# Altium integrated library Integrated_Library.IntLib: 216 symbols (part 2 of 3)
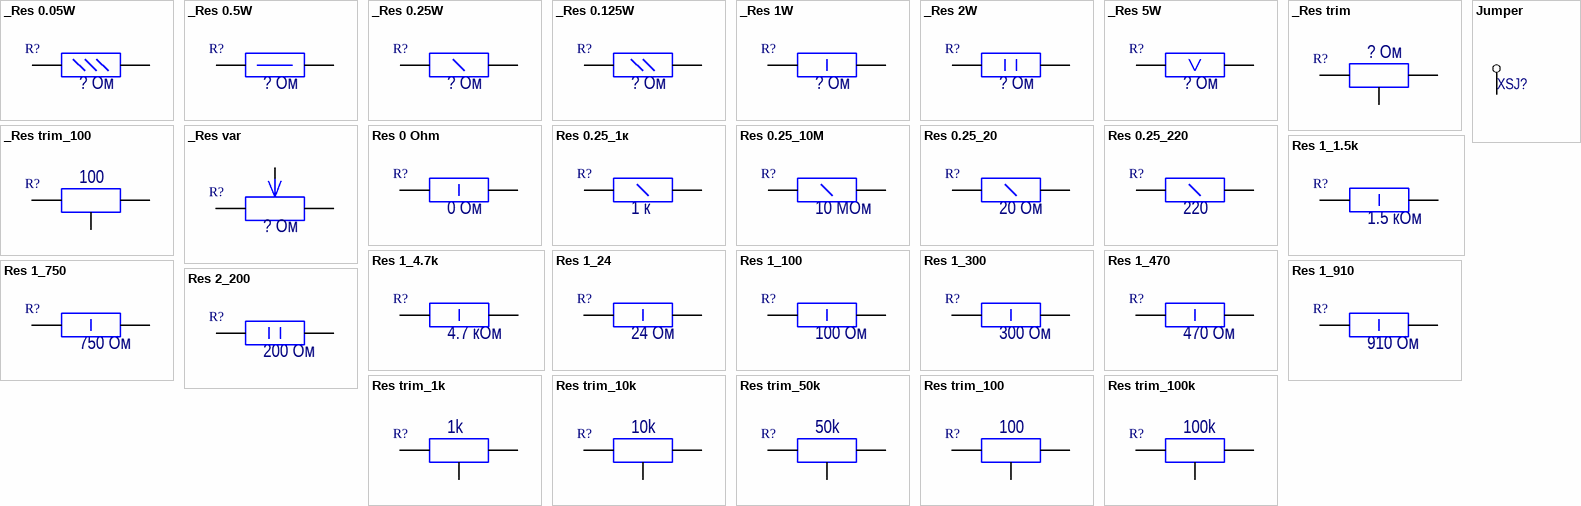
[diagram p23: symbols _Res 0.05W to Res trim_100k]

## _Res trim
designator R?, comment value ? Ом  (hidden comment: ?)
Resistor trimming; ManufacturerPartNumber: ?; ComponentLink1Description: Datasheet; ComponentLink2Description: Datasheet-local; ComponentLink2URL: *
pins: 1, 2, 3

## _Res trim_100
designator R?, comment value 100  (hidden comment: TSR 3006P-101)
Resistor trimming; Manufacturer: Suntan Tecnology Company Limited; ManufacturerPartNumber: TSR 3006P-101; ComponentLink1Description: Datasheet; ComponentLink1URL: http://www.suntan.com.hk/pdf/Trimming-Potentiometers/TSR-3006.pdf; Cost: 15,66; Package: not standard; ComponentLink2Description: Datasheet-local; ComponentLink2URL: *
pins: 1, 2, 3

## _Res var
designator R?, comment value ? Ом  (hidden comment: ?)
Variable resistor; ManufacturerPartNumber: ?; ComponentLink1Description: Datasheet; ComponentLink2Description: Datasheet-local; ComponentLink2URL: *
pins: 1, 2, 3

## Jumper
designator XSJ?
footprint RESC6332-JUMPER (Chip Resistor, 2-Leads, Body 6,40x3,30mm, IPC Low Density)
pins: 1

## Res 0 Ohm
designator R?, comment value 0 Ом  (hidden comment: RC2512JK-070RL)
Resistor with 1W max power; Manufacturer: YAGEO; ManufacturerPartNumber: RC2512JK-070RL; ComponentLink1Description: Datasheet; Package: 2512; ComponentLink2Description: Datasheet-local; ComponentLink2URL: *
footprint RESC6332X06M (Chip Resistor, 2-Leads, Body 6,35x2,50mm, IPC Low Density)
pins: 1, 2

## Res 0.25_1к
designator R?, comment value 1 к  (hidden comment: МЛТ)
Resistor with 0.25W max power; Manufacturer: СССР; ManufacturerPartNumber: МЛТ; ComponentLink1Description: Datasheet; Cost: 0,63; Package: штырьевой; Supplier: Промэлектроника; ComponentLink2Description: Datasheet-local
footprint МЛТ-0,25
pins: 1, 2

## Res 0.25_10M
designator R?, comment value 10 МОм  (hidden comment: RC1206JR-0710ML)
Resistor with 0.25W max power; Manufacturer: Yageo; ManufacturerPartNumber: RC1206JR-0710ML; ComponentLink1Description: Datasheet; ComponentLink1URL: http://www.yageo.com/documents/recent/PYu-RC1206_51_RoHS_L_6.pdf; Cost: 0,63; Package: 1206; Supplier: Промэлектроника; ComponentLink2Description: Datasheet-local; ComponentLink2URL: *
footprint RESC3216X07M (Chip Resistor, 2-Leads, Body 3,10x1,60mm, IPC Low Density)
pins: 1, 2

## Res 0.25_20
designator R?, comment value 20 Ом  (hidden comment: RC1206FR-0720RL)
Resistor with 0.25W max power; Manufacturer: Yageo; ManufacturerPartNumber: RC1206FR-0720RL; ComponentLink1Description: Datasheet; ComponentLink1URL: http://www.yageo.com/documents/recent/PYu-RC1206_51_RoHS_L_6.pdf; Cost: 0,52; Package: 1206; Supplier: Промэлектроника; ComponentLink2Description: Datasheet-local; ComponentLink2URL: *
pins: 1, 2

## Res 0.25_220
designator R?, comment value 220  (hidden comment: МЛТ)
Resistor with 0.25W max power; Manufacturer: СССР; ManufacturerPartNumber: МЛТ; ComponentLink1Description: Datasheet; Cost: 0,63; Package: штырьевой; Supplier: Промэлектроника; ComponentLink2Description: Datasheet-local
footprint МЛТ-0,25
pins: 1, 2

## Res 1_1.5k
designator R?, comment value 1.5 кОм  (hidden comment: RC2512JK-071K5L)
Resistor with 1W max power; Manufacturer: YAGEO; ManufacturerPartNumber: RC2512JK-071K5L; ComponentLink1Description: Datasheet; Package: 2512; ComponentLink2Description: Datasheet-local; ComponentLink2URL: *
footprint RESC6332X06M (Chip Resistor, 2-Leads, Body 6,35x2,50mm, IPC Low Density)
pins: 1, 2

## Res 1_4.7k
designator R?, comment value 4.7 кОм  (hidden comment: RC2512JK-074K7L)
Resistor with 1W max power; Manufacturer: YAGEO; ManufacturerPartNumber: RC2512JK-074K7L; ComponentLink1Description: Datasheet; Package: 2512; ComponentLink2Description: Datasheet-local; ComponentLink2URL: *
footprint RESC6332X06M (Chip Resistor, 2-Leads, Body 6,35x2,50mm, IPC Low Density)
pins: 1, 2

## Res 1_24
designator R?, comment value 24 Ом  (hidden comment: RC2512JK-0724RL)
Resistor with 1W max power; Manufacturer: YAGEO; ManufacturerPartNumber: RC2512JK-0724RL; ComponentLink1Description: Datasheet; Package: 2512; ComponentLink2Description: Datasheet-local; ComponentLink2URL: *
footprint RESC6332X06M (Chip Resistor, 2-Leads, Body 6,35x2,50mm, IPC Low Density)
pins: 1, 2

## Res 1_100
designator R?, comment value 100 Ом  (hidden comment: RC2512JK-07100RL)
Resistor with 1W max power; Manufacturer: YAGEO; ManufacturerPartNumber: RC2512JK-07100RL; ComponentLink1Description: Datasheet; Package: 2512; ComponentLink2Description: Datasheet-local; ComponentLink2URL: *
footprint RESC6332X06M (Chip Resistor, 2-Leads, Body 6,35x2,50mm, IPC Low Density)
footprint RESC3216X07M (Chip Resistor, 2-Leads, Body 3,10x1,60mm, IPC Low Density)
pins: 1, 2

## Res 1_300
designator R?, comment value 300 Ом  (hidden comment: RC2512JK-07300RL)
Resistor with 1W max power; Manufacturer: YAGEO; ManufacturerPartNumber: RC2512JK-07300RL; ComponentLink1Description: Datasheet; Package: 2512; ComponentLink2Description: Datasheet-local; ComponentLink2URL: *
footprint RESC6332X06M (Chip Resistor, 2-Leads, Body 6,35x2,50mm, IPC Low Density)
pins: 1, 2

## Res 1_470
designator R?, comment value 470 Ом  (hidden comment: RC2512JK-07470RL)
Resistor with 1W max power; Manufacturer: YAGEO; ManufacturerPartNumber: RC2512JK-07470RL; ComponentLink1Description: Datasheet; Package: 2512; ComponentLink2Description: Datasheet-local; ComponentLink2URL: *
footprint RESC6332X06M (Chip Resistor, 2-Leads, Body 6,35x2,50mm, IPC Low Density)
pins: 1, 2

## Res 1_750
designator R?, comment value 750 Ом  (hidden comment: RC2512JK-07750RL)
Resistor with 1W max power; Manufacturer: YAGEO; ManufacturerPartNumber: RC2512JK-07750RL; ComponentLink1Description: Datasheet; Package: 2512; ComponentLink2Description: Datasheet-local; ComponentLink2URL: *
footprint RESC6332X06M (Chip Resistor, 2-Leads, Body 6,35x2,50mm, IPC Low Density)
pins: 1, 2

## Res 1_910
designator R?, comment value 910 Ом  (hidden comment: RC2512JK-07910RL)
Resistor with 1W max power; Manufacturer: YAGEO; ManufacturerPartNumber: RC2512JK-07910RL; ComponentLink1Description: Datasheet; Package: 2512; ComponentLink2Description: Datasheet-local; ComponentLink2URL: *
footprint RESC6332X06M (Chip Resistor, 2-Leads, Body 6,35x2,50mm, IPC Low Density)
pins: 1, 2

## Res 2_200
designator R?, comment value 200 Ом  (hidden comment: ?)
200 Ohm resistor with 2W max power; ManufacturerPartNumber: ?; ComponentLink1Description: Datasheet; Package: MFR200; ComponentLink2Description: Datasheet-local; ComponentLink2URL: *
footprint MFR200 (2W resistor)
pins: 1, 2

## Res trim_1k
designator R?, comment value 1k  (hidden comment: T93YA102KT20)
Resistor trimming; Manufacturer: VISHAY; ManufacturerPartNumber: T93YA102KT20; ComponentLink1Description: Datasheet; ComponentLink1URL: http://www.vishay.com/docs/51026/t93.pdf; Cost: 38.41; Package: not standard; ComponentLink2Description: Datasheet-local; ComponentLink2URL: *
footprint T93YA (3/8" Square Multi-Turn Cermet Trimmer)
pins: 1, 2, 3

## Res trim_10k
designator R?, comment value 10k  (hidden comment: T93YA102KT20)
Resistor trimming; Manufacturer: VISHAY; ManufacturerPartNumber: T93YA102KT20; ComponentLink1Description: Datasheet; ComponentLink1URL: http://www.vishay.com/docs/51026/t93.pdf; Cost: 38.41; Package: not standard; ComponentLink2Description: Datasheet-local; ComponentLink2URL: *
footprint T93YA (3/8" Square Multi-Turn Cermet Trimmer)
pins: 1, 2, 3

## Res trim_50k
designator R?, comment value 50k  (hidden comment: T93YA503KT20)
Resistor trimming; Manufacturer: VISHAY; ManufacturerPartNumber: T93YA503KT20; ComponentLink1Description: Datasheet; ComponentLink1URL: http://www.vishay.com/docs/51026/t93.pdf; Cost: 38.41; Package: not standard; ComponentLink2Description: Datasheet-local; ComponentLink2URL: *
footprint T93YA (3/8" Square Multi-Turn Cermet Trimmer)
pins: 1, 2, 3

## Res trim_100
designator R?, comment value 100  (hidden comment: TSR 3362P-101)
Resistor trimming; Manufacturer: Suntan Tecnology Company Limited; ManufacturerPartNumber: TSR 3362P-101; ComponentLink1Description: Datasheet; ComponentLink1URL: http://www.suntan.com.hk/pdf/Trimming-Potentiometers/TSR-3006.pdf; Cost: 15,66; Package: not standard; ComponentLink2Description: Datasheet-local; ComponentLink2URL: *
footprint TSR-3362-SMD
footprint TSR-3362
pins: 1, 2, 3

## Res trim_100k
designator R?, comment value 100k  (hidden comment: T93YA104KT20)
Resistor trimming; Manufacturer: VISHAY; ManufacturerPartNumber: T93YA104KT20; ComponentLink1Description: Datasheet; ComponentLink1URL: http://www.vishay.com/docs/51026/t93.pdf; Cost: 38.41; Package: not standard; ComponentLink2Description: Datasheet-local; ComponentLink2URL: *
footprint T93YA (3/8" Square Multi-Turn Cermet Trimmer)
pins: 1, 2, 3


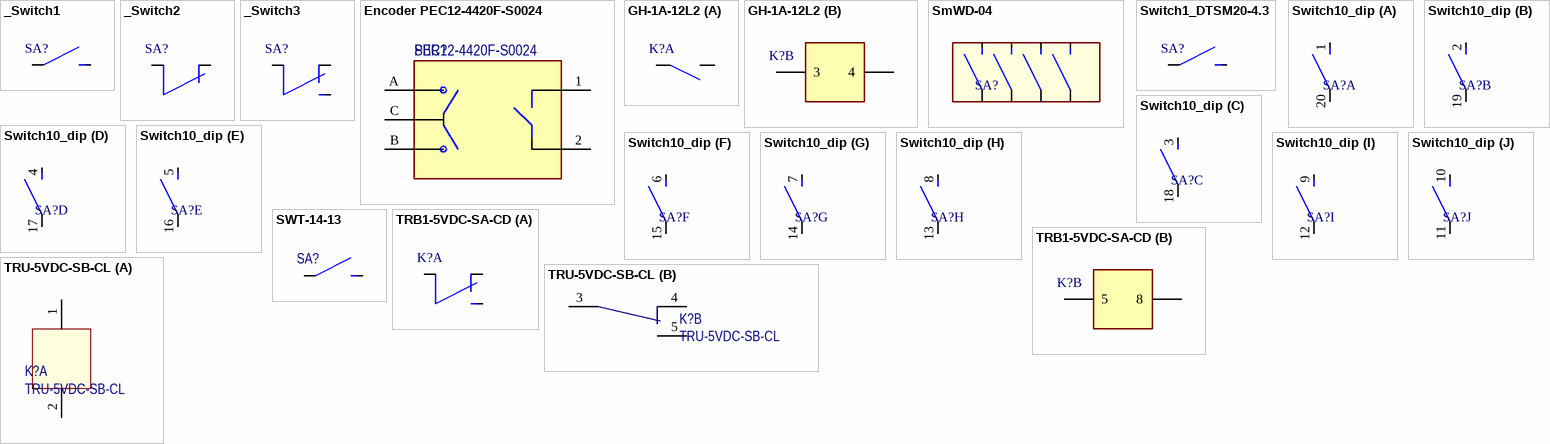
[diagram p9: symbols _Switch1 to TRU-5VDC-SB-CL]

## _Switch1
designator SA?, comment ?  (value not drawn)
Switch open; ManufacturerPartNumber: ?; ComponentLink1Description: Datasheet; ComponentLink2Description: Datasheet-local; ComponentLink2URL: *
pins: 1, 2

## _Switch2
designator SA?, comment ?  (value not drawn)
Switch closed; ManufacturerPartNumber: ?; ComponentLink1Description: Datasheet; ComponentLink2Description: Datasheet-local; ComponentLink2URL: *
pins: 1, 2

## _Switch3
designator SA?, comment ?  (value not drawn)
Changeover switch; ManufacturerPartNumber: ?; ComponentLink1Description: Datasheet; ComponentLink2Description: Datasheet-local; ComponentLink2URL: *
pins: 1, 2, 3

## Encoder PEC12-4420F-S0024
designator SBR?, comment PEC12-4420F-S0024
Supplier 1: Mouser; Supplier Part Number 1: 652-PEC12-4220FS0024; ComponentLink1URL: http://www.mouser.com/ds/2/54/bourns_pec12-350254.pdf; ComponentLink1Description: http://www.mouser.com/ds/2/54/bourns_pec12-350254.pdf; ManufacturerPartNumber: PEC12-4420F-S0024
footprint PEC12-4420F-S0024
pins: 1, 2, A, B, C

## GH-1A-12L2
designator K?  (value not drawn)
Relay open; Manufacturer: Tai Shing Electronics Components Corp.; ManufacturerPartNumber: GH-1A-12L2; ComponentLink1Description: Datasheet; ComponentLink1URL: http://www.dzsc.com/uploadfile/company/306168/2010513152117307.pdf; Cost: 31.18; Package: unknown; Supplier: Промэлектроника; ComponentLink2Description: Datasheet-local; ComponentLink2URL: *
footprint GH-1A-12L2
part A pins: 1, 2
part B pins: 3, 4

## SmWD-04
designator SA?, comment SmWD04 SMD  (value not drawn)
Движковый переключатель для поверхностного монтажа; Manufacturer: Diptronics; ManufacturerPartNumber: SmWD04 SMD; ComponentLink1Description: Datasheet; ComponentLink1URL: http://www.promelec.ru/catalog_info/55/140/603/630/; Cost: 37.08; Package: SMD; Supplier: Промэлектроника
footprint SmWD-04_SMD (CFP, 8-Leads, Body 11,10x6,20mm (max), Pitch 2,54mm, IPC High Density)
pins: 1, 2, 3, 4, 5, 6, 7, 8

## Switch1_DTSM20-4.3
designator SA?, comment DTSM20-4.3  (value not drawn)
Switch open; Manufacturer: Diptronics; ManufacturerPartNumber: DTSM20-4.3; ComponentLink1Description: Datasheet; ComponentLink1URL: http://www.promelec.ru/catalog/407/1291/1323/1/70721/; ComponentLink2Description: Datasheet-local; ComponentLink2URL: *
footprint DTSM20 (DTSM20 button footprint)
pins: 1, 2

## Switch10_dip
designator SA?, comment DipSwitch8  (value not drawn)
Выводной DIP переключатель на 10 бит; Manufacturer: ECE; ManufacturerPartNumber: DipSwitch8; Supplier: LTF; Package: DIP20
footprint DIP20-Switch (Стандартный DIP20 корпус для выводных переключателей)
part A pins: 1, 20
part B pins: 2, 19
part C pins: 3, 18
part D pins: 4, 17
part E pins: 5, 16
part F pins: 6, 15
part G pins: 7, 14
part H pins: 8, 13
part I pins: 9, 12
part J pins: 10, 11

## SWT-14-13
designator SA?, comment SWT14-13  (value not drawn)
ManufacturerPartNumber: SWT14-13
footprint SWT14
pins: 1, 2

## TRB1-5VDC-SA-CD
designator K?  (value not drawn)
Relay open; Manufacturer: Tai Shing Electronics Components Corp.; ManufacturerPartNumber: TRB1-5VDC-SA-CD; ComponentLink1Description: Datasheet; ComponentLink1URL: http://www.promelec.ru/pdf/TRB.pdf; Cost: 31.18; Package: DIP-12; Supplier: Промэлектроника; ComponentLink2Description: Datasheet-local; ComponentLink2URL: *
footprint TRB1-5VDC-SA-CD
part A pins: 1 COM "Common", 6 NC, 7 NO
part B pins: 5, 8

## TRU-5VDC-SB-CL
designator K?
ManufacturerPurtNumber: TRU-5VDC-SB-CL
footprint TRU-5VDC-SB-CL
part A pins: 1, 2
part B pins: 3, 4, 5


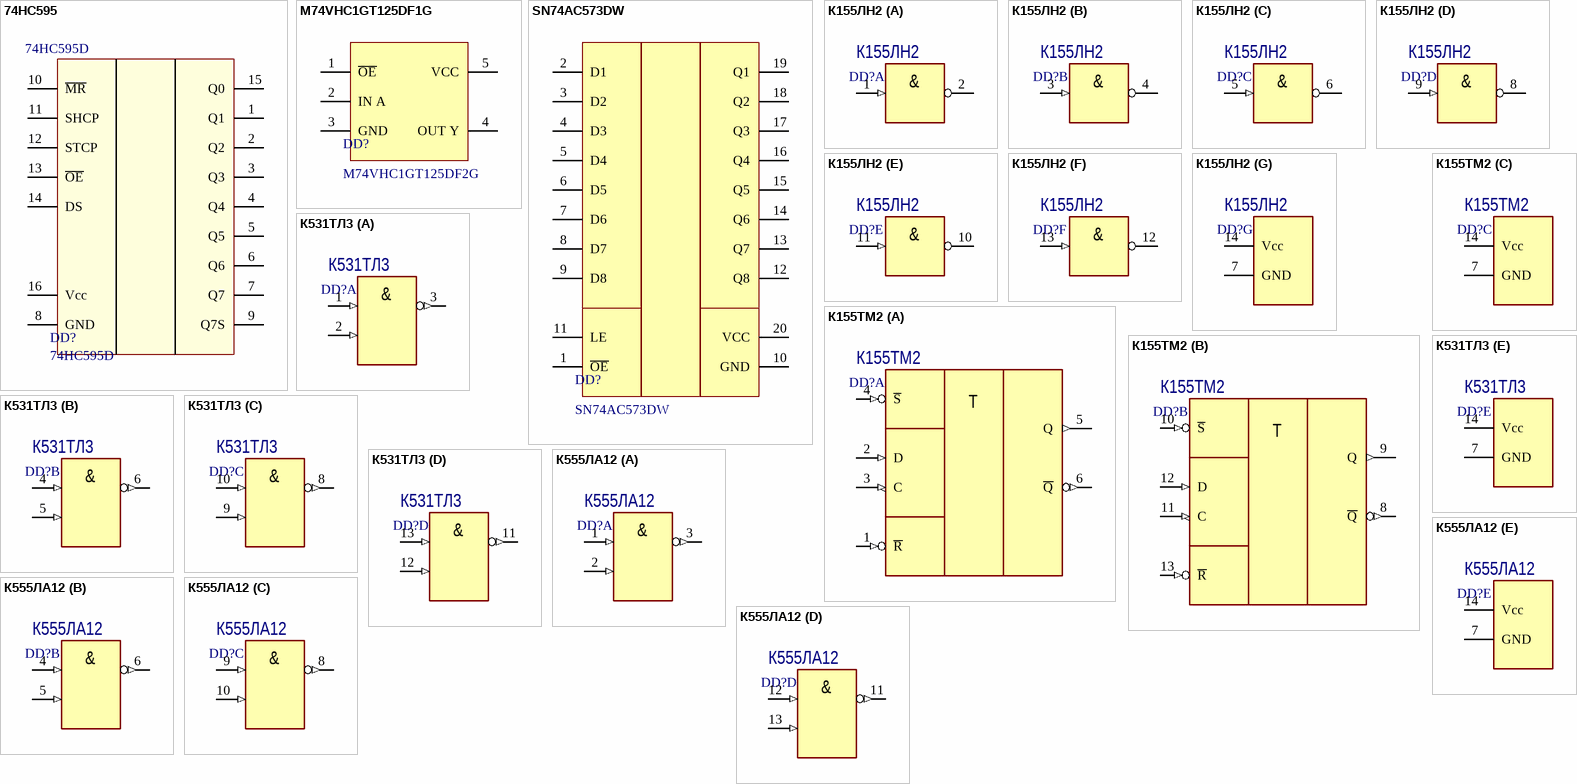
[diagram p10: symbols 74HC595 to К555ЛА12]

## 74HC595
designator DD?, comment 74HC595D
IC: digital; 3-state,8bit, shift register, latch; SMD; SO16; Manufacturer: NXP; Unit: pcs; SuppliedAmount: 2500; MinAmount: 1; Supplier 1: TME; ManufacturerPartNumber: 74HC595D; Category: Shift Registers; Stock 1: 32276; Pricing 1: 1=0,3701, 25=0,1253, 100=0,1133, 500=0,1003, 2500=0,088 (USD); Weight: 0,353; Multiples: 1; Price Type: NET; Integrated circuit type: digital; Kind of integrated circuit: 3-state; Mounting: SMD; Case: SO16; Series: HC; ComponentLink1URL: http://www.tme.eu/en/details/74hc595d/shift-registers/; ComponentLink1Description: http://www.tme.eu/en/details/74hc595d/shift-registers/; Supplier Part Number 1: 74HC595D
footprint SOIC127P600X175-16N (SOIC, 16-Leads, Body 9,90x3,90mm, Pitch 1,27mm, IPC Medium Density)
pins: 1 Q1, 2 Q2, 3 Q3, 4 Q4, 5 Q5, 6 Q6, 7 Q7, 8 GND, 9 Q7S, 10 ~{MR}, 11 SHCP, 12 STCP, 13 ~{OE}, 14 DS, 15 Q0, 16 Vcc

## M74VHC1GT125DF1G
designator DD?, comment M74VHC1GT125DF2G
NON INVERTING BUFFER, SOT-353-5; Manufacturer: ON SEMICONDUCTOR; Description: ON SEMICONDUCTOR - M74VHC1GT125DF2G - NON INVERTING BUFFER, SOT-353-5; Logic Device Type: Buffer, Non Inverting; No. of Pins: 5; Supply Voltage Min: 3; Supply Voltage Max: 5.5; Supplier 1: Newark; ManufacturerPartNumber: M74VHC1GT125DF2G; RoHS: YES; Stock 1: 4805; Pricing 1: 1=0,046, 10=0,046, 25=0,046, 100=0,046, 250=0,046, 500=0,046, 1000=0,037, 2500=0,037 (USD); Logic Case Style: SOT-353; Operating Temperature Min: -55 C; Operating Temperature Max: 125 C; ComponentLink1URL: http://www.farnell.com/datasheets/1749137.pdf; ComponentLink1Description: http://www.farnell.com/datasheets/1749137.pdf; Supplier Part Number 1: 83H7592
footprint SOT65P210X110-5N (SOT23, 5-Leads, Body 2,00x2,10mm, Pitch 0,65mm, IPC Medium Density)
pins: 1 ~{OE}, 2 IN A, 3 GND, 4 OUT Y, 5 VCC

## SN74AC573DW
designator DD?
IC OCTAL TRANSP LATCH 20-SOIC; Manufacturer: Texas Instruments; Logic Type: D-Type Transparent Latch; Circuit: 8:8; Output Type: Tri-State; Voltage - Supply: 2 V ~ 6 V; Independent Circuits: 1; Delay Time - Propagation: 2.5ns; Current - Output High, Low: 24mA, 24mA; Supplier 1: Digi-Key; ManufacturerPartNumber: SN74AC573DW; RoHS: RoHS Compliant; Category: Integrated Circuits (ICs); Stock 1: 1044; Pricing 1: 1=0.92, 10=0.826, 100=0.644, 500=0.532, 1000=0.42, 2500=0.392, 5000=0.3724, 10000=0.3584 (USD); Packaging: Tube; Operating Temperature: -40°C ~ 85°C; Mounting Type: Surface Mount; Package / Case: 20-SOIC (0.295", 7.50mm Width); Supplier Device Package: 20-SOIC; ComponentLink1URL: http://www.ti.com/lit/ds/symlink/sn74ac573.pdf; ComponentLink1Description: http://www.ti.com/lit/ds/symlink/sn74ac573.pdf; Supplier Part Number 1: 296-1061-5-ND
footprint SOIC127P1030X265-20N (SOIC, 20-Leads, Body 12,78x7,50mm, Pitch 1,27mm, IPC Medium Density)
pins: 1 ~{OE}, 2 D1, 3 D2, 4 D3, 5 D4, 6 D5, 7 D6, 8 D7, 9 D8, 10 GND, 11 LE, 12 Q8, 13 Q7, 14 Q6, 15 Q5, 16 Q4, 17 Q3, 18 Q2, 19 Q1, 20 VCC

## К155ЛН2
designator DD?
НЕ(ОК); Manufacturer: -; Package: DIP-14; ComponentLink1URL: -; ComponentLink1Description: Datasheet; Cost: -; Supplier: -; ComponentLink2URL: -; ComponentLink2Description: Datasheet-local; ManufacturerPartNumber: К155ЛН2
footprint DIP14
part A pins: 1 (in), 2 (oc)
part B pins: 3 (in), 4 (oc)
part C pins: 5 (in), 6 (oc)
part D pins: 8 (oc), 9 (in)
part E pins: 10 (oc), 11 (in)
part F pins: 12 (oc), 13 (in)
part G pins: 7 GND (power), 14 Vcc (power)
part A text: &
part B text: &
part C text: &
part D text: &
part E text: &
part F text: &

## К155ТМ2
designator DD?
D-триггер; Manufacturer: -; Package: DIP-14; ComponentLink1URL: -; ComponentLink1Description: Datasheet; Cost: -; Supplier: -; ComponentLink2URL: -; ComponentLink2Description: Datasheet-local; ManufacturerPartNumber: К155ТМ2
footprint DIP14
part A pins: 1 ~{R} (in), 2 D (in), 3 C (in), 4 ~{S} (in), 5 Q (out), 6 ~{Q} (out)
part B pins: 8 ~{Q} (out), 9 Q (out), 10 ~{S} (in), 11 C (in), 12 D (in), 13 ~{R} (in)
part C pins: 7 GND (power), 14 Vcc (power)
part A text: T
part B text: T

## К531ТЛ3
designator DD?
2И-НЕ с триггером Шмитта; Manufacturer: -; Package: DIP-14; ComponentLink1URL: -; ComponentLink1Description: Datasheet; Cost: -; Supplier: -; ComponentLink2URL: -; ComponentLink2Description: Datasheet-local; ManufacturerPartNumber: К531ТЛ3
footprint DIP14
part A pins: 1 (in), 2 (in), 3 (out)
part B pins: 4 (in), 5 (in), 6 (out)
part C pins: 8 (out), 9 (in), 10 (in)
part D pins: 11 (out), 12 (in), 13 (in)
part E pins: 7 GND (power), 14 Vcc (power)
part A text: &
part B text: &
part C text: &
part D text: &

## К555ЛА12
designator DD?
2И-НЕ; Manufacturer: -; Package: DIP-14; ComponentLink1URL: -; ComponentLink1Description: Datasheet; Cost: -; Supplier: -; ComponentLink2URL: -; ComponentLink2Description: Datasheet-local; ManufacturerPartNumber: К555ЛА12
footprint DIP14
part A pins: 1 INA1 (in), 2 INA2 (in), 3 OUTA (out)
part B pins: 4 INB1 (in), 5 INB2 (in), 6 OUTB (out)
part C pins: 8 OUTC (out), 9 INC1 (in), 10 INC2 (in)
part D pins: 11 OUTD (out), 12 IND1 (in), 13 IND2 (in)
part E pins: 7 GND (power), 14 Vcc (power)
part A text: &
part B text: &
part C text: &
part D text: &


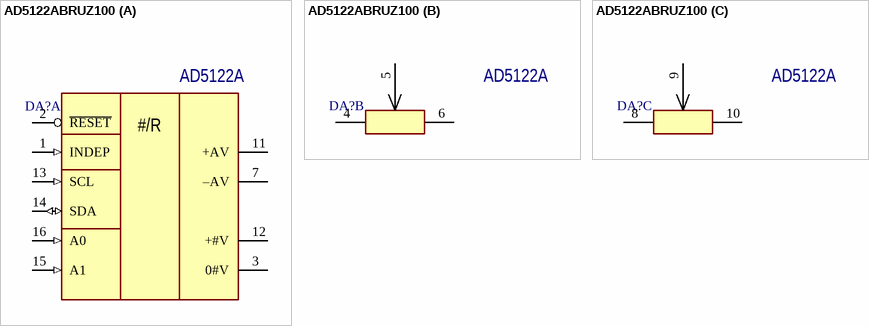
[diagram p11: symbol AD5122ABRUZ100]

## AD5122ABRUZ100
designator DA?, comment AD5122A
Digital potentiometer; Manufacturer: Analog Devices Inc; ComponentLink1URL: http://www.farnell.com/datasheets/1679537.pdf; ComponentLink1Description: Datasheet; Cost: 68,58; Package: TSSOP-16; Supplier: Аргуссофт; ComponentLink2Description: Datasheet-local; ComponentLink2URL: .\datasheets\AD5122A_5142A.pdf; ManufacturerPartNumber: AD5122A
footprint AD5122A (16-Lead Thin Shrink Small Outline Package [TSSOP]   (RU-16))
part A pins: 1 INDEP (in), 2 ~{RESET}, 3 0#V (power) "GND", 7 –AV (power) "Vss", 11 +AV (power) "Vdd", 12 +#V (power) "Vlogic", 13 SCL (in), 14 SDA (io), 15 A1 (in) "ADDR1", 16 A0 (in) "ADDR0"
part B pins: 4 A1, 5 W1, 6 B1
part C pins: 8 A2, 9 W2, 10 B2
part A text: #/R


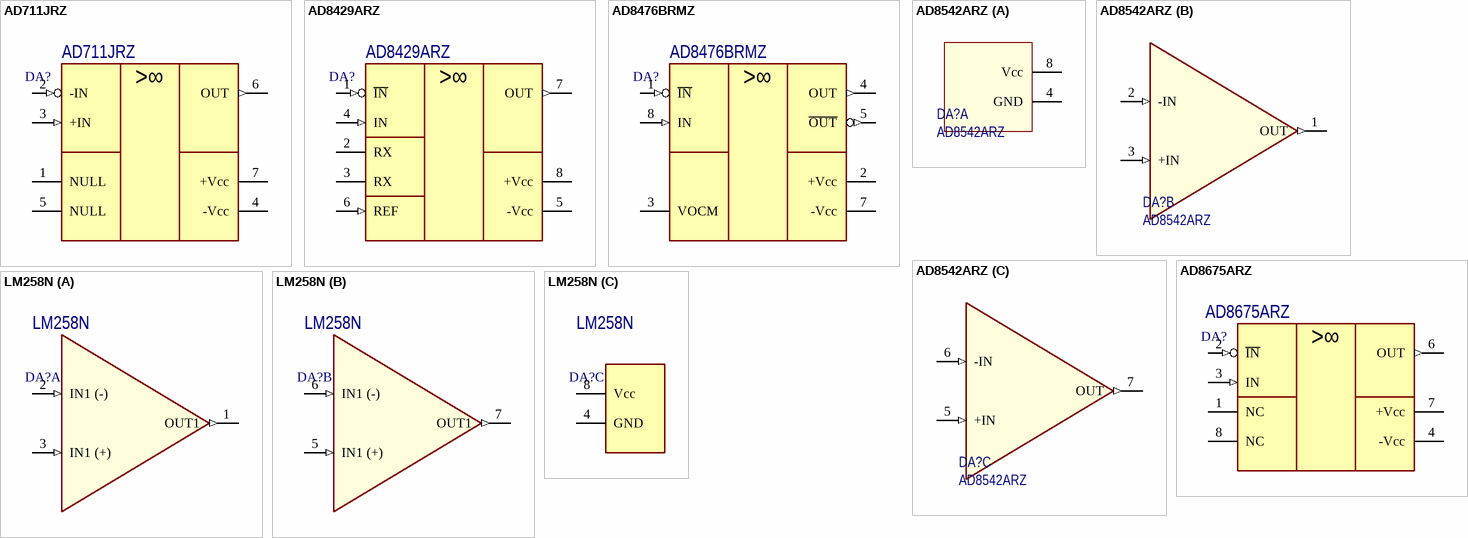
[diagram p12: symbols AD711JRZ to LM258N]

## AD711JRZ
designator DA?
Оperational amplifier; Manufacturer: Analog Devices Inc; ComponentLink1URL: http://www.analog.com/static/imported-files/data_sheets/AD711.pdf; ComponentLink1Description: Datasheet; Package: SOIC-8; Cost: 58,20; Supplier: Аргуссофт; ComponentLink2URL: .\datasheet\AD711.pdf; ComponentLink2Description: Datasheet-local; ManufacturerPartNumber: AD711JRZ
footprint AD711JRZ (8-Lead Standard Small Outline Package [SOIC]  Narrow Body  (RN-8))
pins: 1 NULL, 2 -IN (in), 3 +IN (in), 4 -Vcc (power), 5 NULL, 6 OUT (out), 7 +Vcc (power) "+V"
text: >∞

## AD8429ARZ
designator DA?
Оperational amplifier; Manufacturer: Analog Devices Inc; Package: SOIC-8; ComponentLink1URL: http://www.analog.com/static/imported-files/data_sheets/AD8429.pdf; ComponentLink1Description: Datasheet; Cost: 175,76; Supplier: Аргуссофт; ComponentLink2URL: .\datasheet\AD8429.pdf; ComponentLink2Description: Datasheet-local; ManufacturerPartNumber: AD8429ARZ
footprint AD711JRZ (8-Lead Standard Small Outline Package [SOIC]  Narrow Body  (RN-8))
pins: 1 ~{IN} (in) "-IN", 2 RX "RG", 3 RX "RG", 4 IN (in) "+IN", 5 -Vcc (power) "-Vs", 6 REF (in), 7 OUT (out), 8 +Vcc (power) "+Vs"
text: >∞

## AD8476BRMZ
designator DA?
Оperational amplifier; Manufacturer: Analog Devices Inc; Package: MSOP-8; ComponentLink1URL: http://www.analog.com/static/imported-files/data_sheets/AD8476.pdf; ComponentLink1Description: Datasheet; Cost: 126,49; Supplier: Аргуссофт; ComponentLink2URL: .\datasheet\AD8476.pdf; ComponentLink2Description: Datasheet-local; ManufacturerPartNumber: AD8476BRMZ
footprint AD8476BRMZ (8-Lead Mini Small Outline Package [MSOP]   (RM-8))
pins: 1 ~{IN} (in) "Negative input", 2 +Vcc (power) "+Vs", 3 VOCM "Output COmmon-MOde Adjust", 4 OUT (out) "Noninverting Output", 5 ~{OUT} (out) "Inverting Output", 7 -Vcc (power) "-Vs", 8 IN (in) "Positive input"
text: >∞

## AD8542ARZ
designator DA?
ManufacturerPartNumber: AD8542ARZ
footprint AD8542ARZ (SOIC, 8-Leads, Body 4,90x3,90mm)
part A pins: 4 GND, 8 Vcc
part B pins: 1 OUT (out), 2 -IN (in), 3 +IN (in)
part C pins: 5 +IN (in), 6 -IN (in), 7 OUT (out)

## AD8675ARZ
designator DA?
Оperational amplifier; Manufacturer: Analog Devices Inc; Package: SOIC-8; ComponentLink1URL: http://www.analog.com/static/imported-files/data_sheets/AD8675.pdf; ComponentLink1Description: Datasheet; Supplier: Аргуссофт; Cost: 70,88; ComponentLink2URL: .\datasheet\AD8675.pdf; ComponentLink2Description: Datasheet-local; ManufacturerPartNumber: AD8675ARZ
footprint AD711JRZ (8-Lead Standard Small Outline Package [SOIC]  Narrow Body  (RN-8))
pins: 1 NC "NULL", 2 ~{IN} (in) "-IN", 3 IN (in) "+IN", 4 -Vcc (power) "V-", 6 OUT (out), 7 +Vcc (power) "V+", 8 NC "NULL"
text: >∞

## LM258N
designator DA?
Оperational amplifier x2; Manufacturer: Analog Devices Inc; Package: DIP-8; ComponentLink1URL: https://www.fairchildsemi.com/datasheets/LM/LM258.pdf; ComponentLink1Description: Datasheet; Supplier: Аргуссофт; Cost: 70,88; ManufacturerPartNumber: LM258N
footprint DIP8
part A pins: 1 OUT1 (out), 2 IN1 (-) (in), 3 IN1 (+) (in)
part B pins: 5 IN1 (+) (in), 6 IN1 (-) (in), 7 OUT1 (out)
part C pins: 4 GND (power), 8 Vcc (power)


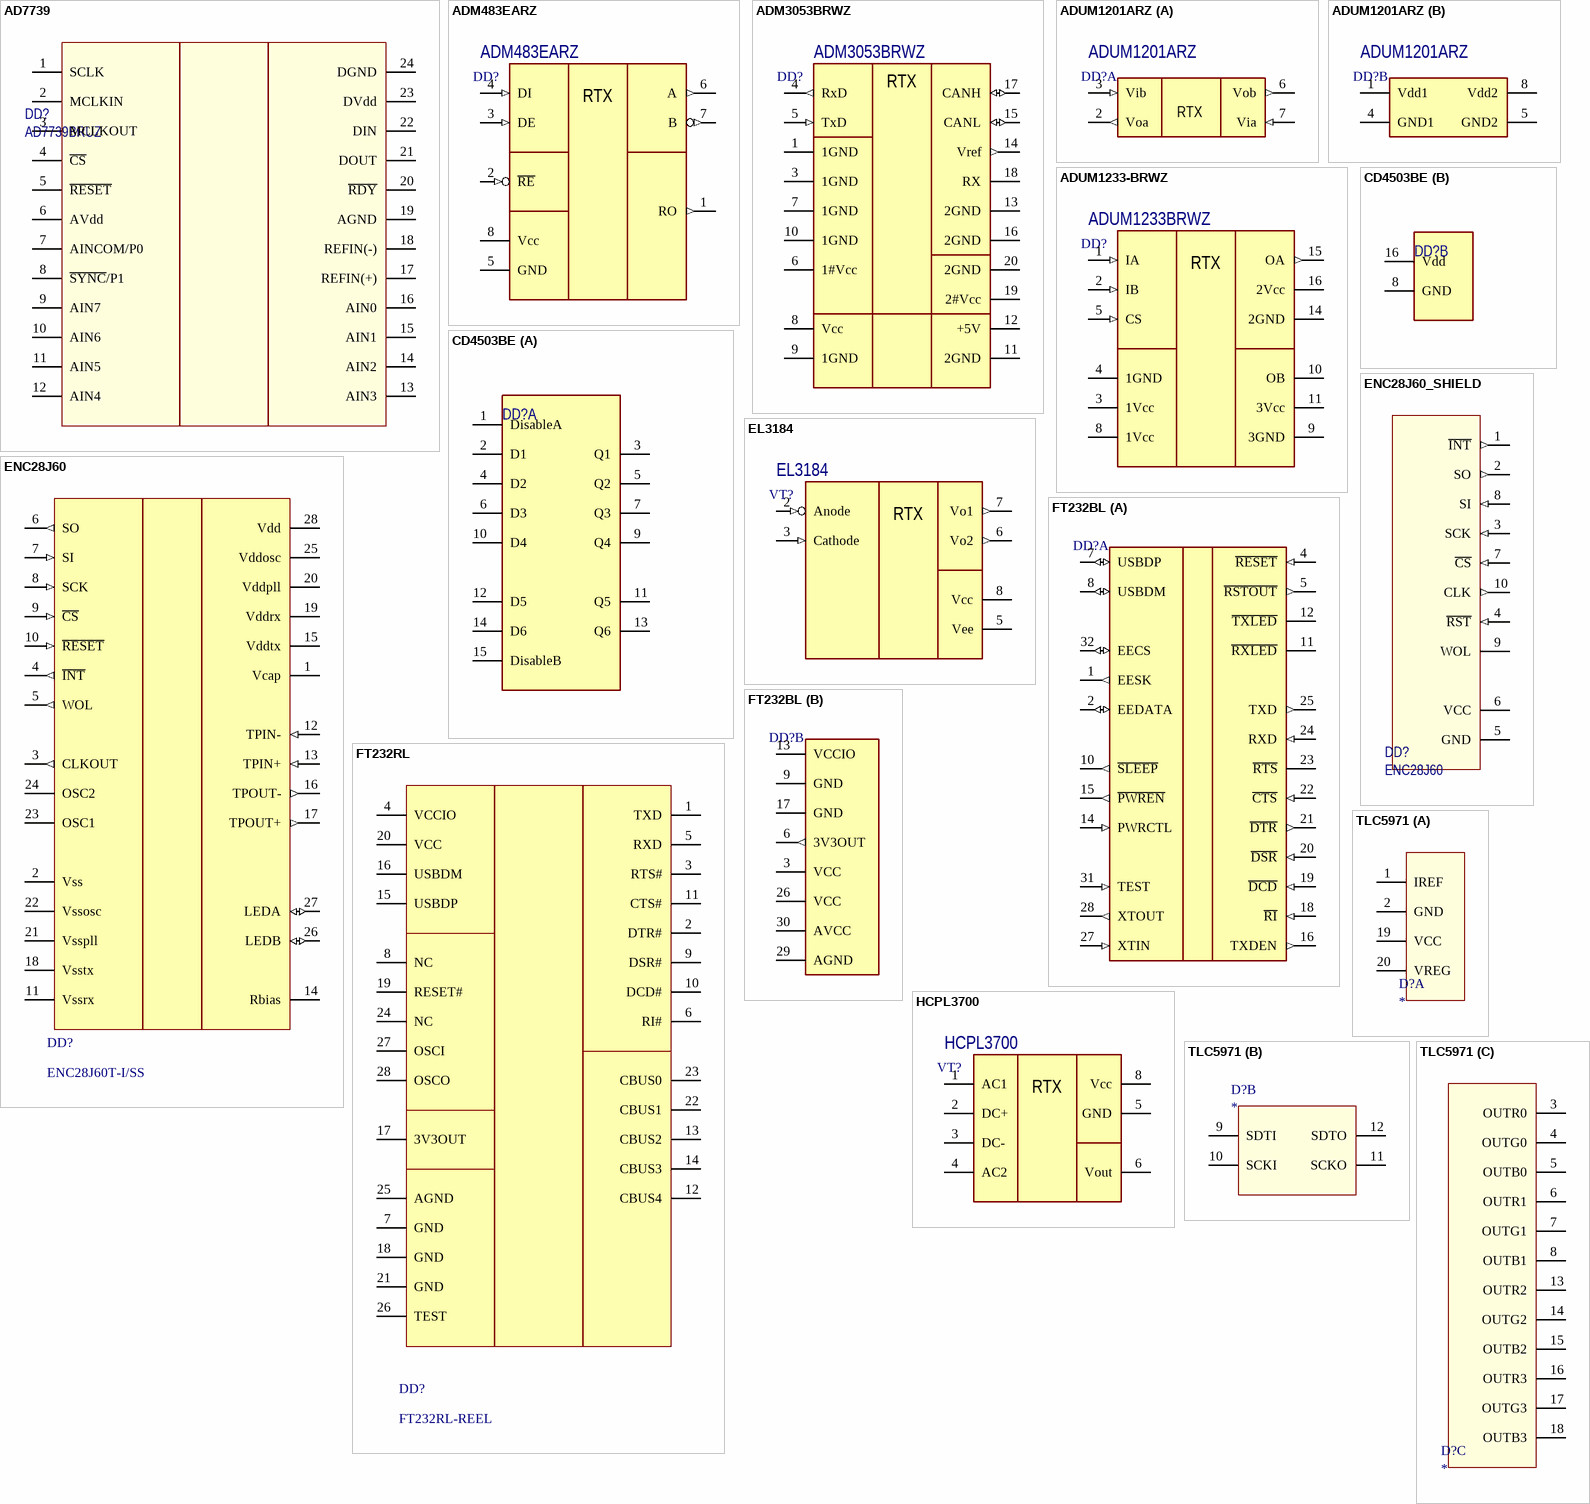
[diagram p13: symbols AD7739 to TLC5971]

## AD7739
designator DD?, comment AD7739BRUZ
IC ADC 24BIT 8-CH 24-TSSOP; Manufacturer: Analog Devices Inc.; Number of Bits: 24; Sampling Rate (Per Second): 15.1k; Number of Inputs: 4, 8; Input Type: Differential, Single Ended; Data Interface: SPI, DSP; Configuration: MUX-ADC; Number of A/D Converters: 1; Architecture: Sigma-Delta; Reference Type: External; Voltage - Supply, Analog: 5V; Voltage - Supply, Digital: 2.7 V ~ 3.6 V, 5V; ManufacturerPartNumber: AD7739BRUZ; Supplier 1: Digi-Key; Manufacturer Part Number: AD7739BRUZ; RoHS: RoHS Compliant; Category: Integrated Circuits (ICs); Stock 1: 284; Pricing 1: 1=15.82, 62=13.93694, 124=12.2796, 558=10.92357, 1054=10.01955, 2542=9.64288, 5000=9.516 (USD); Packaging: Tube; Ratio - S/H:ADC: -; Features: True Bipolar; Operating Temperature: -40°C ~ 105°C; Package / Case: 24-TSSOP (0.173", 4.40mm Width); Supplier Device Package: 24-TSSOP; ComponentLink1URL: http://www.analog.com/media/en/technical-documentation/data-sheets/AD7739.pdf; ComponentLink1Description: http://www.analog.com/media/en/technical-documentation/data-sheets/AD7739.pdf; Supplier Part Number 1: AD7739BRUZ-ND
footprint TSSOP-RU-24 (TSOP, 24-Leads, Body 7,80x4,40mm, Pitch 0,65mm, IPC Low Density)
pins: 1 SCLK, 2 MCLKIN, 3 MCLKOUT, 4 ~{CS}, 5 ~{RESET}, 6 AVdd, 7 AINCOM/P0, 8 ~{SYNC}/P1, 9 AIN7, 10 AIN6, 11 AIN5, 12 AIN4, 13 AIN3, 14 AIN2, 15 AIN1, 16 AIN0, 17 REFIN(+), 18 REFIN(-), 19 AGND, 20 ~{RDY}, 21 DOUT, 22 DIN, 23 DVdd, 24 DGND

## ADM483EARZ
designator DD?
Isolator interface; Manufacturer: Analog Devices Inc.; Package: DIP-8; ComponentLink1URL: http://www.analog.com/static/imported-files/data_sheets/ADM483E.pdf; ComponentLink1Description: Datasheet; Cost: 62,10; Supplier: Промэлектроника; ComponentLink2Description: Datasheet-local; ManufacturerPartNumber: ADM483EARZ
footprint DIP8
pins: 1 RO (out), 2 ~{RE} (in), 3 DE (in), 4 DI (in), 5 GND (power), 6 A (out), 7 B (out), 8 Vcc (power)
2 alternate drawings of the same symbol
text: RTX

## ADM3053BRWZ
designator DD?
CAN; Manufacturer: Analog Devices Inc; Package: SOIC-20; ComponentLink1Description: Datasheet; ComponentLink1URL: http://www.analog.com/static/imported-files/data_sheets/ADM3053.pdf; Cost: 308,31; Supplier: Аргуссофт; ComponentLink2URL: .\datasheet\ADM3053.pdf; ComponentLink2Description: Datasheet-local; ManufacturerPartNumber: ADM3053BRWZ
footprint SOIC_W (20-Lead SOIC_W, Body 12,80x7,50mm, Pitch 1,27mm, IPC Low Density)
pins: 1 1GND (power) "GND1", 3 1GND (power) "GND1", 4 RxD (out), 5 TxD (in), 6 1#Vcc (power) "Vio", 7 1GND (power) "GND1", 8 Vcc (power), 9 1GND (power) "GND1", 10 1GND (power) "GND1", 11 2GND, 12 +5V "Visoout", 13 2GND (power) "GND2", 14 Vref (out), 15 CANL (io), 16 2GND, 17 CANH (io), 18 RX "Rs", 19 2#Vcc "Visoin", 20 2GND
text: RTX

## ADUM1201ARZ
designator DD?
Digital Isolator Logic 2-CH 1Mbps 8-Pin SOIC N; Manufacturer: Analog Devices Inc.; Package: SOIC-8; ComponentLink1URL: http://www.analog.com/static/imported-files/data_sheets/ADuM1200_1201.pdf; ComponentLink1Description: Datasheet; Cost: ?; Supplier: Промэлектроника; ComponentLink2Description: Datasheet-local; ManufacturerPartNumber: ADUM1201ARZ
footprint AD711JRZ (8-Lead Standard Small Outline Package [SOIC]  Narrow Body  (RN-8))
part A pins: 2 Voa (out), 3 Vib (in), 6 Vob (out), 7 Via (in)
part B pins: 1 Vdd1 (power), 4 GND1 (power), 5 GND2 (power), 8 Vdd2 (power)
part A text: RTX

## ADUM1233-BRWZ
designator DD?, comment ADUM1233BRWZ
Isolator interface; Manufacturer: Analog Devices Inc.; Package: SOIC-16; ComponentLink1URL: http://www.analog.com/static/imported-files/data_sheets/ADUM1233.pdf; ComponentLink1Description: Datasheet; Cost: 89,90; Supplier: Аргуссофт; ComponentLink2URL: .\datasheet\ADUM1233.pdf; ComponentLink2Description: Datasheet-local; ManufacturerPartNumber: ADUM1233BRWZ
footprint ADUM1233-BRWZ (16-Lead Standard Small Outline Package [SOIC_W]   Wide Body   (RW-16))
pins: 1 IA (in) "Via (Logic Input A)", 2 IB (in) "Vib (Logic Input B)", 3 1Vcc (power) "Vdd1 (Input Supply Voltage)", 4 1GND (power) "Ground Reference for logic signals", 5 CS (in) "DISABLE (Input Disalbe. Disable the isolator input and refresh circuits)", 8 1Vcc (power) "Vdd1 (Input Supply Voltage, 4.5 to 5.5V)", 9 3GND (power) "GNDb (Ground reference for Output B)", 10 OB (power) "Vob (Output B)", 11 3Vcc (power) "Vddb (Output B Supply voltage, 12V to 18V)", 14 2GND (power) "GNDa (Ground reference for Output A)", 15 OA (out) "Voa (Output A)", 16 2Vcc (power) "Vdda (Output A Supply voltage, 12V to 18V)"
text: RTX

## CD4503BE
designator DD?
Буферы и линейные аппаратные драйверы Tri-State Hex; Manufacturer: Texas Instruments; Тип выхода: 3-State; Упаковка / блок: PDIP-16; Упаковка: Tube; Ток питания: 60 uA; Семейство логических элементов: CD4000; Тип логики: CMOS; Вид монтажа: Through Hole; Количество входных линий: 6 Input; Количество выходных линий: 6 Output; Выходной ток высокого уровня: - 8.2 mA; Выходной ток низкого уровня: 19.2 mA; Максимальная рабочая температура: + 125 C; Максимальное рассеяние мощности: 100 mW; Минимальная рабочая температура: - 55 C; Количество каналов на чип: 5; Полярность: Non-Inverting; Категория продукта: Logic - Buffers, Drivers, and Transceivers; Время задержки распространения: 150 ns at 5 V, 70 ns at 10 V, 50 ns at 15 V; Кол-во в стандартной упаковке: 25; Напряжение питания - макс.: 18 V; Напряжение питания - мин.: 3 V; Supplier 1: Mouser; ManufacturerPartNumber: CD4503BE; RoHS: RoHS Compliant; Category: Буферы и линейные аппаратные драйверы; Stock 1: 1094; Pricing 1: 1=1.01, 10=0.769, 100=0.405, 1000=0.362, 5000=0.310, 10000=0.288, 25000=0.280 (USD); Серия: CD4503B; Торговая марка: Texas Instruments; Производитель: Texas Instruments; RoHS - Mouser: Y; Minimum Order Quantity: 1; Reeling: False; ComponentLink1URL: http://www.mouser.com/ds/2/405/cd4503b-439724.pdf; ComponentLink1Description: http://www.mouser.com/ds/2/405/cd4503b-439724.pdf; Supplier Part Number 1: 595-CD4503BE
footprint DIP16
part A pins: 1 DisableA, 2 D1, 3 Q1, 4 D2, 5 Q2, 6 D3, 7 Q3, 9 Q4, 10 D4, 11 Q5, 12 D5, 13 Q6, 14 D6, 15 DisableB
part B pins: 8 GND, 16 Vdd

## EL3184
designator VT?
Optocouple IGBT driver; Manufacturer: Everlight Electronics Co. Ltd; Package: DIP-8; ComponentLink1URL: http://www.promelec.ru/pdf/EL3184-EVLT.pdf; ComponentLink1Description: Datasheet; Cost: 66,38; Supplier: Промэлектроника; ManufacturerPartNumber: EL3184
footprint DIP8
pins: 2 Anode (in), 3 Cathode (in), 5 Vee (power), 6 Vo2 (out), 7 Vo1 (out), 8 Vcc (power)
text: RTX

## ENC28J60
designator DD?, comment ENC28J60T-I/SS
ETHERNET Integrated Circuits; Manufacturer: MICROCHIP TECHNOLOGY; Unit: pcs; SuppliedAmount: 2100; MinAmount: 500; Multiples: 100; Integrated circuit type: ethernet controller; Ethernet category: 10Base-T; Interface: SPI; Integrated circuits features: MAC / PHY; Operating voltage: 3.1...3.6V; TX/RX buffer size: 8192 B; Supplier 1: Digi-Key; Supplier 2: TME; ManufacturerPartNumber: ENC28J60T-I/SS; Category: ETHERNET Integrated Circuits; Stock 2: 0; Pricing 2: 500=2,36 (USD); Weight: 0,53; Price Type: NET; Mounting: SMD; Case: TSSOP28; ComponentLink1URL: http://www.tme.eu/en/details/enc28j60t-i_ss/ethernet-integrated-circuits/microchip-technology/; ComponentLink1Description: http://www.tme.eu/en/details/enc28j60t-i_ss/ethernet-integrated-circuits/microchip-technology/; Supplier Part Number 1: ENC28J60T-I/SSTR-ND; Supplier Part Number 2: ENC28J60T-I/SS
footprint ENC28J60_SSOP (SOP, 28-Leads, Body 10,20x5,30mm, Pitch 0,65mm, IPC Medium Density)
pins: 1 Vcap, 2 Vss (power), 3 CLKOUT (out), 4 ~{INT} (out), 5 WOL (out), 6 SO (out), 7 SI (in), 8 SCK (in), 9 ~{CS} (in), 10 ~{RESET} (in), 11 Vssrx (power), 12 TPIN- (in), 13 TPIN+ (in), 14 Rbias, 15 Vddtx (power), 16 TPOUT- (out), 17 TPOUT+ (out), 18 Vsstx (power), 19 Vddrx (power), 20 Vddpll (power), 21 Vsspll (power), 22 Vssosc (power), 23 OSC1, 24 OSC2, 25 Vddosc (power), 26 LEDB (io), 27 LEDA (io), 28 Vdd (power)

## ENC28J60_SHIELD
designator DD?, comment ENC28J60
Ethernet Module
footprint SHIELD_Ethernet (Ethernet shield (почти))
pins: 1 ~{INT} (out), 2 SO (out), 3 SCK (in), 4 ~{RST} (in), 5 GND (power), 6 VCC (power), 7 ~{CS} (in), 8 SI (in), 9 WOL, 10 CLK (out)

## FT232BL
designator DD?  (value not drawn)
UART-USB; Manufacturer: FTDI; Package: SOIC-20; ComponentLink1Description: Datasheet; ComponentLink1URL: http://www.ftdichip.com/Support/Documents/DataSheets/ICs/DS_FT232BL_BQ.pdf; Supplier: Аргуссофт; ManufacturerPartNumber: FT232BL; ComponentLink2URL: .\datasheet\FT232BL.pdf; ComponentLink2Description: Datasheet-local
footprint FT232BL (LQFP, 32-Leads, Body 7,00x7,00mm, Pitch 0,80mm, IPC Low Density)
part A pins: 1 EESK (out), 2 EEDATA (io), 4 ~{RESET} (in) "Active low reset pin. This can be used by an external device to reset the FT232. If not required can be left unconnected, or pulled up to VCC", 5 ~{RSTOUT} (out), 7 USBDP (io), 8 USBDM (io), 10 ~{SLEEP} (out), 11 ~{RXLED} (oc), 12 ~{TXLED} (oc), 14 PWRCTL (in), 15 ~{PWREN} (out), 16 TXDEN (out), 18 ~{RI} (in), 19 ~{DCD} (in), 20 ~{DSR} (in), 21 ~{DTR} (out), 22 ~{CTS} (in), 23 ~{RTS}, 24 RXD (in), 25 TXD (out), 27 XTIN (in), 28 XTOUT (out), 31 TEST (in), 32 EECS (io)
part B pins: 3 VCC (power), 6 3V3OUT (out) "3.3 volt Output from the integrated LDO regulator. This pin should be decouled to GND using a 33nF ceramic capacitor in close proximity to the device pin. Its prime purpose is to provide internal 3.3 supply to the USB transceiver cell and the RSTOUT# pin. A small amount of current (<=5mA) can be drawn from this pin to power external 3.3v logic if required.", 9 GND (power) "Device ground supply pins", 13 VCCIO (power) "+3.0 volt to +5.25 volt VCC to the UART interface pins 10...12, 14...16 and   18...25. When interfacing with 3.3V external logic in a bus powered design connect   VCCIO to a 3.3V supply generated from the USB bus. When interfacing with 3.3V   external logic in a self powered design connect VCCIO to the 3.3V supply of the   external logic. Otherwise connect to VCC to drive out at 5V", 17 GND (power), 26 VCC (power), 29 AGND "Device analogue ground supply for internal x8 vlock multiplier", 30 AVCC (power) "Device analogue power supply for internal x8 clock multiplier"

## FT232RL
designator DD?, comment FT232RL-REEL
FTDI - FT232RL-REEL - IC, USB TO UART, SMD, 28SSOP; Supply Voltage Min: 1.8; Supply Voltage Max: 5.25; Interface Case Style: SSOP; No. of Pins: 28; SVHC: No SVHC (15-Jun-2015); Supply Voltage Range: 1.8V to 5.25V, 3.3V to 5.25V<!--FANDB--><div class="features-and-benefits-container"><div class="features-and-benefits-description"><span class="features-benefits-value">The FT232R is the latest device to be added to FTDI's range of USB UART interface Integrated Circuit Devices. The FT232R is a USB to serial UART interface with optional clock generator output, and the new FTDIChip-ID security dongle feature. In addition, asynchronous and synchronous bit bang interface modes are available. USB to serial designs using the FT232R have been further simplified by fully integrating the external EEPROM, clock circuit and USB resistors onto the device.</span></div><div class="features-and-benefits-list"><ul class="features-and-benefits-list-list"><li class="features-and-benefits-list-item">Single chip USB to asynchronous serial data transfer interface</li><li class="features-and-benefits-list-item">Entire USB protocol handled on the chip - No USB-specific firmware programming required</li><li class="features-and-benefits-list-item">UART interface support for 7 or 8 data bits, 1 or 2 stop bits & odd/even/mark/space/no parity</li><li class="features-and-benefits-list-item">Fully assisted hardware or X-On / X-Off software handshaking</li><li class="features-and-benefits-list-item">In-built support for event characters and line break condition</li><li class="features-and-benefits-list-item">New USB FTDIChip-ID feature</li><li class="features-and-benefits-list-item">New configurable CBUS I/O pins</li><li class="features-and-benefits-list-item">Auto transmit buffer control for RS485 applications</li><li class="features-and-benefits-list-item">Transmit and receive LED drive signals</li><li class="features-and-benefits-list-item">New 48MHz, 24MHz,12MHz, and 6; Supplier 1: Farnell; Manufacturer: FTDI; ManufacturerPartNumber: FT232RL-REEL; RoHS: YES; Pricing 1: 150=2,49, 250=2,22, 500=1,94, 1000=1,61 (GBP); Bridge Type: USB to UART; Operating Temperature Min: -40; Operating Temperature Max: 85; Packaging: Cut Tape; MSL: MSL 3 - 168 hours; Operating Temperature Range: -40°C to +85; ComponentLink1URL: http://www.farnell.com/datasheets/1647396.pdf; ComponentLink1Description: http://www.farnell.com/datasheets/1647396.pdf; Supplier Part Number 1: 1146032RL
footprint FT232RL (SOP, 28-Leads, Body 10,20x5,30mm, Pitch 0,65mm, IPC Medium Density)
pins: 1 TXD, 2 DTR#, 3 RTS#, 4 VCCIO, 5 RXD, 6 RI#, 7 GND, 8 NC, 9 DSR#, 10 DCD#, 11 CTS#, 12 CBUS4, 13 CBUS2, 14 CBUS3, 15 USBDP, 16 USBDM, 17 3V3OUT, 18 GND, 19 RESET#, 20 VCC, 21 GND, 22 CBUS1, 23 CBUS0, 24 NC, 25 AGND, 26 TEST, 27 OSCI, 28 OSCO

## HCPL3700
designator VT?
AC/DC to Logic Interface Optocoupler; Manufacturer: Everlight Electronics Co. Ltd; Package: DIP-8; ComponentLink1URL: https://www.fairchildsemi.com/datasheets/HC/HCPL3700.pdf; ComponentLink1Description: Datasheet; Cost: 66,38; Supplier: Промэлектроника; ManufacturerPartNumber: HCPL3700
footprint DIP8
pins: 1 AC1, 2 DC+, 3 DC-, 4 AC2, 5 GND, 6 Vout, 8 Vcc
text: RTX

## TLC5971
designator D?
12-Channel, 16-Bit, Enhanced Spectrum, PWM, RGB, LED Driver With 3.3-V  Linear Regulator; ManufacturerPartNumber: TLC5971; Manufacturer: TI; ComponentLink1URL: http://www.ti.com/lit/ds/symlink/tlc5971.pdf; ComponentLink1Description: Datasheet
footprint TLC5971 (TSOP, 20-Leads, Body 6,50x4,40mm, Pitch 0,65mm, IPC High Density)
part A pins: 0 ThermalPad hidden to GND, 1 IREF, 2 GND, 19 VCC, 20 VREG
part B pins: 9 SDTI, 10 SCKI, 11 SCKO, 12 SDTO
part C pins: 3 OUTR0, 4 OUTG0, 5 OUTB0, 6 OUTR1, 7 OUTG1, 8 OUTB1, 13 OUTR2, 14 OUTG2, 15 OUTB2, 16 OUTR3, 17 OUTG3, 18 OUTB3


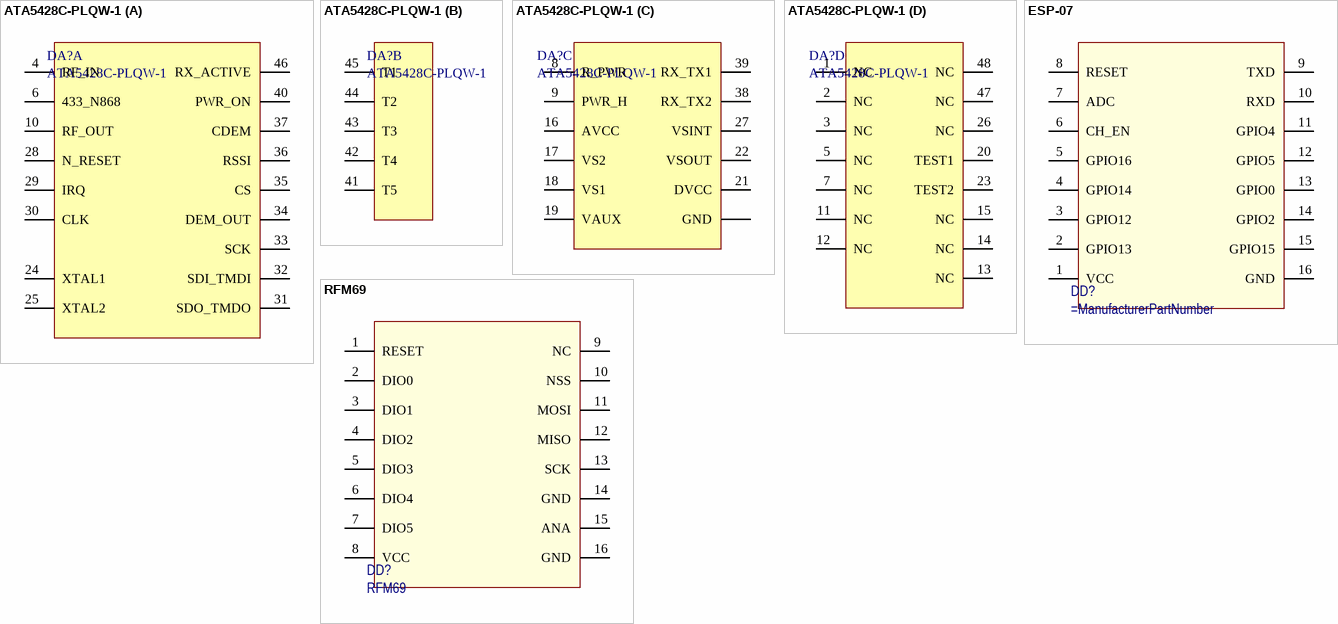
[diagram p14: symbols ATA5428C-PLQW-1 to RFM69]

## ATA5428C-PLQW-1
designator DA?
Atmel 433/ 886 MHz Trans; Supplier 1: Mouser; Manufacturer: Atmel; ManufacturerPartNumber: ATA5428C-PLQW-1; Category: Atmel; Stock 1: 0; Pricing 1: 4000=4.27 (EUR); Торговая марка: Atmel; Производитель: Atmel; Minimum Order Quantity: 4000; Reeling: False; ComponentLink1URL: http://www.mouser.com/ds/2/36/atmel-4841-transceiver-ics-ata5428_datasheet-477288.pdf; ComponentLink1Description: http://www.mouser.com/ds/2/36/atmel-4841-transceiver-ics-ata5428_datasheet-477288.pdf; Supplier Part Number 1: 556-ATA5428C-PLQW-1
footprint QFN50P700X700X90_HS-49M (QFN, 48-Leads, Body 7,00x7,00mm, Pitch 0,50mm, Thermal Pad 5,60x5,60mm, IPC Low Density)
part A pins: 4 RF_IN "RF input", 6 433_N868 "Selects RF input/output frequency range", 10 RF_OUT "RF output", 24 XTAL1 "Reference crystal", 25 XTAL2 "Reference crystal", 28 N_RESET "Output pin to reset a connected microcontroller", 29 IRQ "Interrupt request", 30 CLK "Clock output to connect a microcontroller", 31 SDO_TMDO "Serial data out/transparent mode data out", 32 SDI_TMDI "Serial data in/transparent mode data in", 33 SCK "Serial clock", 34 DEM_OUT "Demodulator open drain output signal", 35 CS "Chip select for serial interface", 36 RSSI "Output of the RSSI amplifier", 37 CDEM "Capacitor to adjust the lower cut-off frequency data filter", 40 PWR_ON "Input to switch on the system (active high)", 46 RX_ACTIVE "Indicates RX operation mode"
part B pins: 41 T5 "Key input 5 (can also be used to switch on the system (active low))", 42 T4 "Key input 4 (can also be used to switch on the system (active low))", 43 T3 "Key input 3 (can also be used to switch on the system (active low))", 44 T2 "Key input 2 (can also be used to switch on the system (active low))", 45 T1 "Key input 1 (can also be used to switch on the system (active low))"
part C pins: 8 R_PWR "Resistor to adjust output power", 9 PWR_H "Pin to select output power", 16 AVCC "Blocking of the analog voltage supply", 17 VS2 "Power supply input for voltage range 4.4V to 6.6V", 18 VS1 "Power supply input for voltage range 2.4V to 3.6V", 19 VAUX "Auxiliary supply voltage input", 21 DVCC "Blocking of the digital voltage supply", 22 VSOUT "Output voltage power supply for external devices", 27 VSINT "Microcontroller interface supply voltage", 38 RX_TX2 "GND pin to decouple LNA in TX mode", 39 RX_TX1 "Switch pin to decouple LNA in TX mode", 49 GND (power) "Ground"
part D pins: 1 NC "Not connected", 2 NC "Not connected", 3 NC "Not connected", 5 NC "Not connected", 7 NC "Not connected", 11 NC "Not connected", 12 NC "Not connected", 13 NC "Not connected", 14 NC "Not connected", 15 NC "Not connected", 20 TEST1 "Test input, at GND during operation", 23 TEST2 "Test input, at GND during operation", 26 NC "Not connected", 47 NC "Not connected", 48 NC "Not connected"

## ESP-07
designator DD?
Wifi Module ESP-07; anufacturerPartNumber: ESP-07
footprint ESP-07 (Посадочное место для WiFi модуля ESP-07)
pins: 1 VCC, 2 GPIO13, 3 GPIO12, 4 GPIO14, 5 GPIO16, 6 CH_EN, 7 ADC, 8 RESET, 9 TXD, 10 RXD, 11 GPIO4, 12 GPIO5, 13 GPIO0, 14 GPIO2, 15 GPIO15, 16 GND

## RFM69
designator DD?
433 MHz RF Trans Module; Manufacturer: HopeRF Electronic; ManufacturerPartNumber: RFM69
footprint RFM69
pins: 1 RESET, 2 DIO0, 3 DIO1, 4 DIO2, 5 DIO3, 6 DIO4, 7 DIO5, 8 VCC, 9 NC, 10 NSS, 11 MOSI, 12 MISO, 13 SCK, 14 GND, 15 ANA, 16 GND


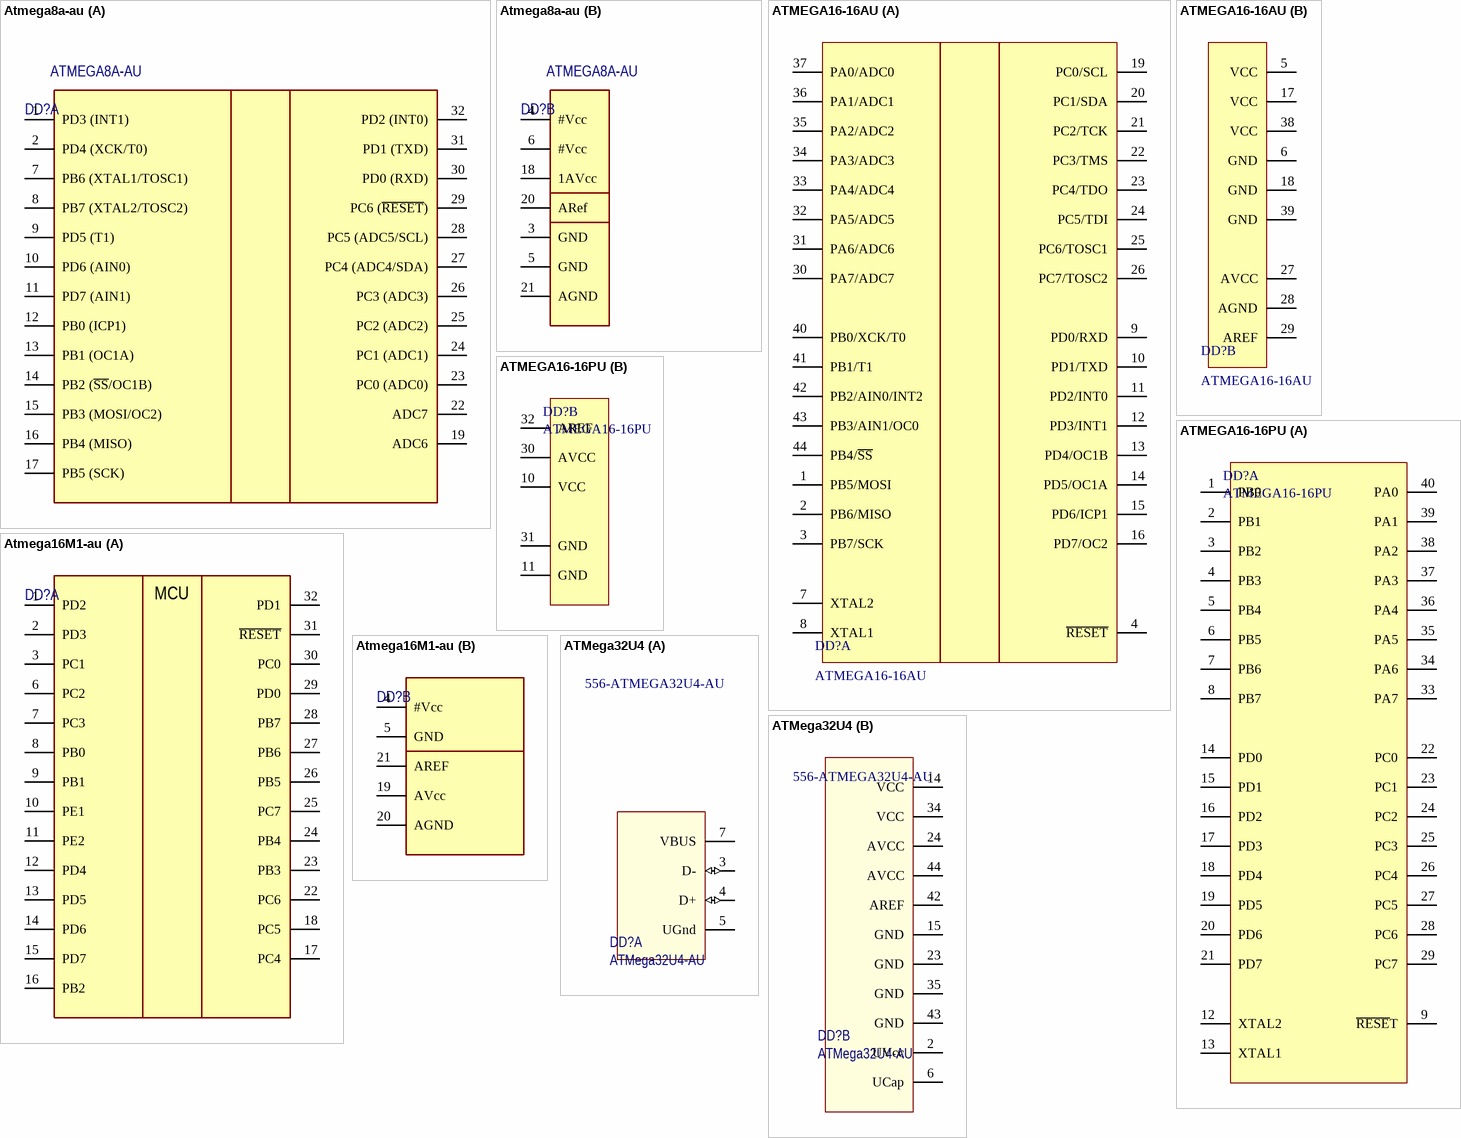
[diagram p15: symbols Atmega8a-au to ATMega32U4]

## Atmega8a-au
designator DD?, comment ATMEGA8A-AU
Microcontroller 8-bit; Manufacturer: Atmel; _Вид монтажа: SMD/SMT; _Размер программной памяти: 8 KB; _Минимальная рабочая температура: - 40 C; _Максимальная тактовая частота: 16 MHz; _Максимальная рабочая температура: + 85 C; _Тип интерфейса: SPI, TWI, USART; _Тип памяти программ: Flash; _Упаковка / блок: TQFP-32; _Ядро: AVR; _Category: 8-битные микроконтроллеры; _Ширина шины данных: 8 bit; _Размер ПЗУ данных: 512 B; _Размер ОЗУ данных: 1 KB; _Количество программируемых входов/выходов: 23; _Количество таймеров: 3; _Встроенный в чип АЦП: Yes; _Рабочее напряжение питания: 2.7 V to 5.5 V; _Серия процессора: megaAVR; _Категория продукта: Microcontrollers - AVR; _Кол-во в стандартной упаковке: 250; _Напряжение питания - макс.: 5.5 V; _Напряжение питания - мин.: 2.7 V; _Коммерческое обозначение: ATMEGA; _Reeling: False; _Производитель: Atmel; _Серия: ATMEGA 8A; _RoHS: RoHS Compliant; ComponentLink1URL: http://www.atmel.com/images/atmel-8159-8-bit-avr-microcontroller-atmega8a_datasheet.pdf; _ComponentLink1Description: http://www.mouser.com/ds/2/36/doc8159-32474.pdf; ComponentLink1Description: Datasheet; Cost: 49,27; Package: TQFP-32; Supplier: Промэлектроника; ComponentLink2Description: Datasheet-local; ComponentLink2URL: .\datasheet\atmega8a.pdf; ManufacturerPartNumber: ATMEGA8A-AU
footprint 32A_M (Thin QFP, 32-Leads, Body 7x7mm, Pitch 0.8mm, IPC Low Density)
part A pins: 1 PD3 (INT1), 2 PD4 (XCK/T0), 7 PB6 (XTAL1/TOSC1), 8 PB7 (XTAL2/TOSC2), 9 PD5 (T1), 10 PD6 (AIN0), 11 PD7 (AIN1), 12 PB0 (ICP1), 13 PB1 (OC1A), 14 PB2 (~{SS}/OC1B), 15 PB3 (MOSI/OC2), 16 PB4 (MISO), 17 PB5 (SCK), 19 ADC6, 22 ADC7, 23 PC0 (ADC0), 24 PC1 (ADC1), 25 PC2 (ADC2), 26 PC3 (ADC3), 27 PC4 (ADC4/SDA), 28 PC5 (ADC5/SCL), 29 PC6 (~{RESET}), 30 PD0 (RXD), 31 PD1 (TXD), 32 PD2 (INT0)
part B pins: 3 GND, 4 #Vcc (power) "Vcc", 5 GND, 6 #Vcc (power) "Vcc", 18 1AVcc (power) "AVcc", 20 ARef "AREF", 21 AGND

## ATMEGA16-16AU
designator DD?
IC MCU 8BIT 16KB FLASH 44TQFP; Manufacturer: Atmel; Core Processor: AVR; Core Size: 8-Bit; Speed: 16MHz; Connectivity: I²C, SPI, UART/USART; Peripherals: Brown-out Detect/Reset, POR, PWM, WDT; Number of I/O: 32; Program Memory Size: 16KB (8K x 16); EEPROM Size: 512 x 8; RAM Size: 1K x 8; Voltage - Supply (Vcc/Vdd): 4.5 V ~ 5.5 V; Data Converters: A/D 8x10b; Oscillator Type: Internal; Supplier 1: Digi-Key; ManufacturerPartNumber: ATMEGA16-16AU; RoHS: RoHS Compliant; Category: Integrated Circuits (ICs); Stock 1: 2818; Pricing 1: 1=7.04, 10=6.338, 100=5.2115, 250=4.78892, 500=4.36636, 1000=3.9125 (USD); Packaging: Tray; Program Memory Type: FLASH; Operating Temperature: -40°C ~ 85°C; Package / Case: 44-TQFP; Supplier Device Package: 44-TQFP (10x10); ComponentLink1URL: http://www.atmel.com/Images/2466s.pdf; ComponentLink1Description: http://www.atmel.com/Images/2466s.pdf; Supplier Part Number 1: ATMEGA16-16AU-ND
footprint 44ML_L (Thin QFP, 44-Leads, Body 10x10mm, Pitch 0.8mm, IPC High Density)
footprint 44ML_M (Thin QFP, 44-Leads, Body 10x10mm, Pitch 0.8mm, IPC Low Density)
footprint 44ML_N (Thin QFP, 44-Leads, Body 10x10mm, Pitch 0.8mm, IPC Medium Density)
part A pins: 1 PB5/MOSI, 2 PB6/MISO, 3 PB7/SCK, 4 ~{RESET}, 7 XTAL2, 8 XTAL1, 9 PD0/RXD, 10 PD1/TXD, 11 PD2/INT0, 12 PD3/INT1, 13 PD4/OC1B, 14 PD5/OC1A, 15 PD6/ICP1, 16 PD7/OC2, 19 PC0/SCL, 20 PC1/SDA, 21 PC2/TCK, 22 PC3/TMS, 23 PC4/TDO, 24 PC5/TDI, 25 PC6/TOSC1, 26 PC7/TOSC2, 30 PA7/ADC7, 31 PA6/ADC6, 32 PA5/ADC5, 33 PA4/ADC4, 34 PA3/ADC3, 35 PA2/ADC2, 36 PA1/ADC1, 37 PA0/ADC0, 40 PB0/XCK/T0, 41 PB1/T1, 42 PB2/AIN0/INT2, 43 PB3/AIN1/OC0, 44 PB4/~{SS}
part B pins: 5 VCC, 6 GND, 17 VCC, 18 GND, 27 AVCC, 28 AGND, 29 AREF, 38 VCC, 39 GND

## ATMEGA16-16PU
designator DD?
8-битные микроконтроллеры 16kB Flash 0.5kB EEPROM 32 I/O Pins; Manufacturer: Atmel; Упаковка / блок: PDIP-40; Упаковка: Bulk; Продукт: MCU; Размер ОЗУ данных: 1 kB; Тип ОЗУ данных: SRAM; Размер ПЗУ данных: 512 B; Тип интерфейса: JTAG, SPI, UART; Вид монтажа: Through Hole; Количество входов/выходов: 32 I/O; Ядро: AVR; Ширина шины данных: 8 bit; Максимальная тактовая частота: 16 MHz; Максимальная рабочая температура: + 85 C; Минимальная рабочая температура: - 40 C; Количество таймеров/счетчиков: 3 Timer; Рабочее напряжение питания: 4.5 V to 5.5 V; Серия процессора: megaAVR; Категория продукта: Microcontrollers - RISC; Кол-во в стандартной упаковке: 10; Напряжение питания - макс.: 5.5 V; Напряжение питания - мин.: 4.5 V; Коммерческое обозначение: ATMEGA; Supplier 1: Mouser; ManufacturerPartNumber: ATMEGA16-16PU; RoHS: RoHS Compliant; Category: 8-битные микроконтроллеры; Stock 1: 1161; Pricing 1: 1=12.02, 10=10.83, 25=9.85, 50=9.42, 100=8.90, 250=8.14, 500=7.41, 1000=6.84 (EUR); Тип памяти программ: Flash; Серия: ATMEGA 16; Торговая марка: Atmel; Тип ПЗУ данных: EEPROM; Размер программной памяти: 16 kB; Производитель: Atmel; RoHS - Mouser: Y; Minimum Order Quantity: 1; Reeling: False; ComponentLink1URL: http://www.mouser.com/ds/2/36/doc2466-24555.pdf; ComponentLink1Description: http://www.mouser.com/ds/2/36/doc2466-24555.pdf; Supplier Part Number 1: 556-ATMEGA16-16PU
footprint PDIP40
part A pins: 1 PB0 (power) "Ground", 2 PB1 (power) "Ground", 3 PB2 (power) "Ground", 4 PB3 (power) "Ground", 5 PB4 (power) "Ground", 6 PB5 (power) "Ground", 7 PB6 (power) "Ground", 8 PB7 (power) "Ground", 9 ~{RESE}T (power) "Ground", 12 XTAL2 (power) "Ground", 13 XTAL1 (power) "Ground", 14 PD0 (power) "Ground", 15 PD1 (power) "Ground", 16 PD2 (power) "Ground", 17 PD3 (power) "Ground", 18 PD4 (power) "Ground", 19 PD5 (power) "Ground", 20 PD6 (power) "Ground", 21 PD7 (power) "Ground", 22 PC0 (power) "Ground", 23 PC1 (power) "Ground", 24 PC2 (power) "Ground", 25 PC3 (power) "Ground", 26 PC4 (power) "Ground", 27 PC5 (power) "Ground", 28 PC6 (power) "Ground", 29 PC7 (power) "Ground", 33 PA7 (power) "Ground", 34 PA6 (power) "Ground", 35 PA5 (power) "Ground", 36 PA4 (power) "Ground", 37 PA3 (power) "Ground", 38 PA2 (power) "Ground", 39 PA1 (power) "Ground", 40 PA0 (power) "Ground"
part B pins: 10 VCC (power) "Ground", 11 GND (power) "Ground", 30 AVCC (power) "Ground", 31 GND (power) "Ground", 32 AREF (power) "Ground"

## Atmega16M1-au
designator DD?, comment Atmega16M1  (value not drawn)
Microcontroller 8-bit (CAN); Manufacturer: Atmel; _Reeling: False; _Category: 8-битные микроконтроллеры; _Ширина шины данных: 8 bit; _Кол-во в стандартной упаковке: 1250; _Рабочее напряжение питания: 2.7 V to 5.5 V; _Максимальная тактовая частота: 16 MHz; _Ядро: AVR; _Коммерческое обозначение: ATMEGA; _Minimum Order Quantity: 1; _Встроенный в чип АЦП: Yes; _Серия: ATMEGA 16M1; _RoHS: RoHS Compliant; _Производитель: Atmel; ComponentLink1URL: http://www.atmel.com/Images/doc8209.pdf; ComponentLink1Description: Datasheet; Cost: 194,33; Package: TQFP-32; Supplier: Аргуссофт; ComponentLink2Description: Datasheet-local; ComponentLink2URL: .\datasheet\atmega16m1.pdf; ManufacturerPartNumber: Atmega16M1
footprint 32A_M (Thin QFP, 32-Leads, Body 7x7mm, Pitch 0.8mm, IPC Low Density)
part A pins: 1 PD2 "PD2 (PCINT18/PSCIN2/OC1A/MISO_A)", 2 PD3 "PD3 (PCINT19/TXD/TXLIN/OC0A/SS/MOSI_A)", 3 PC1 "PC1 (PCINT9/PSCIN1/OC1B/SS_A)", 6 PC2 "PC2 (PCINT10/T0/TXCAN)", 7 PC3 "PC3 (PCINT11/T1/RXCAN/ICP1B)", 8 PB0 "PB0 (PCINT0/MISO/PSCOUT2A)", 9 PB1 "PB1 (PCINT1/MOSI/PSCOUT2B)", 10 PE1 "PE1 (PCINT25/OC0B/XTAL1)", 11 PE2 "PE2 (PCINT26/ADC0/XTAL2)", 12 PD4 "PD4 (PCINT20/ADC1/RXD/RXLIN/CP1A/SCK_A)", 13 PD5 "PD5 (ADC2/ACMP2/PCINT21)", 14 PD6 "PD6 (ADC3/ACMPN2/INT0/PCINT22)", 15 PD7 "PD7 (ACMP0/PCINT23)", 16 PB2 "PB2 (ADC5/INT1/ACMPN0/PCINT2)", 17 PC4 "PC4 (ADC8/ACMPN3/AMP1-/PCINT12)", 18 PC5 "PC5 (ADC9/ACMP3/AMP1+/PCINT13)", 22 PC6 "PC6 (ADC10/ACMP1/PCINT14)", 23 PB3 "PB3 (AMP0-/PCINT3)", 24 PB4 "PB4 (AMP0+/PCINT4)", 25 PC7 "PC7 (D2A/AMP2+/PCINT15)", 26 PB5 "PB5 (ADC6/INT2/ACMPN1/AMP2-/PCINT5)", 27 PB6 "PB6 (ADC7/PSCOUT1B/PCINT6)", 28 PB7 "PB7 (ADC4/PSCOUT0B/SCK/PCINT7)", 29 PD0 "PD0 (PCINT16/PSCOUT0A)", 30 PC0 "PC0 (PCINT8/INT3/PSCOUT1A)", 31 ~{RESET} "PE0 (PCINT24/R\E\S\E\T\/OCD)", 32 PD1 "PD1 (PCINT17/PSCIN0/CLKO)"
part B pins: 4 #Vсс (power), 5 GND (power), 19 AVсс (power), 20 AGND (power), 21 AREF (power) "AREF (ISRC)"
part A text: MCU

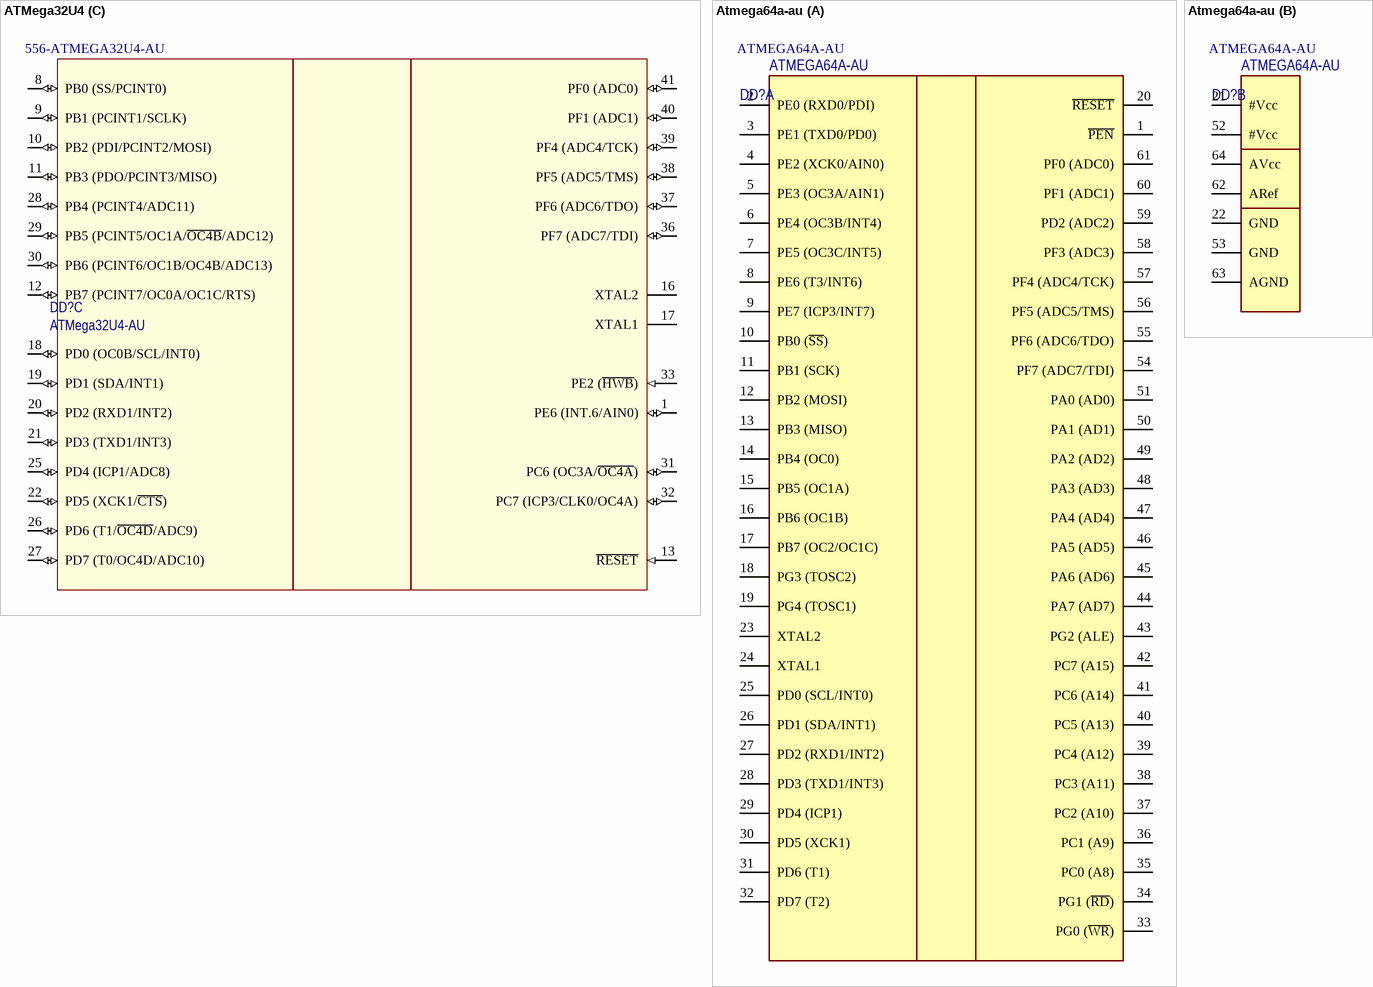
[diagram p16: symbols ATMega32U4 to Atmega64a-au]

## ATMega32U4
designator DD?, comment ATMega32U4-AU  Supplier Part Number 1: 556-ATMEGA32U4-AU
ManufacturerPartNumber: ATMega32U4-AU; Supplier 1: Mouser
footprint 44ML_L (Thin QFP, 44-Leads, Body 10x10mm, Pitch 0.8mm, IPC High Density)
part A pins: 3 D- (io), 4 D+ (io), 5 UGnd (power), 7 VBUS
part B pins: 2 UVcc (power), 6 UCap, 14 VCC (power), 15 GND (power), 23 GND (power), 24 AVCC (power), 34 VCC (power), 35 GND (power), 42 AREF (power), 43 GND (power), 44 AVCC (power)
part C pins: 1 PE6 (INT.6/AIN0) (io), 8 PB0 (SS/PCINT0) (io), 9 PB1 (PCINT1/SCLK) (io), 10 PB2 (PDI/PCINT2/MOSI) (io), 11 PB3 (PDO/PCINT3/MISO) (io), 12 PB7 (PCINT7/OC0A/OC1C/RTS) (io), 13 ~{RESET} (in), 16 XTAL2, 17 XTAL1, 18 PD0 (OC0B/SCL/INT0) (io), 19 PD1 (SDA/INT1) (io), 20 PD2 (RXD1/INT2) (io), 21 PD3 (TXD1/INT3) (io), 22 PD5 (XCK1/~{CTS}) (io), 25 PD4 (ICP1/ADC8) (io), 26 PD6 (T1/~{OC4D}/ADC9) (io), 27 PD7 (T0/OC4D/ADC10) (io), 28 PB4 (PCINT4/ADC11) (io), 29 PB5 (PCINT5/OC1A/~{OC4B}/ADC12) (io), 30 PB6 (PCINT6/OC1B/OC4B/ADC13) (io), 31 PC6 (OC3A/~{OC4A}) (io), 32 PC7 (ICP3/CLK0/OC4A) (io), 33 PE2 (~{HWB}) (in), 36 PF7 (ADC7/TDI) (io), 37 PF6 (ADC6/TDO) (io), 38 PF5 (ADC5/TMS) (io), 39 PF4 (ADC4/TCK) (io), 40 PF1 (ADC1) (io), 41 PF0 (ADC0) (io)